# EAGLE library part FSA2567 (library _RoweTel)
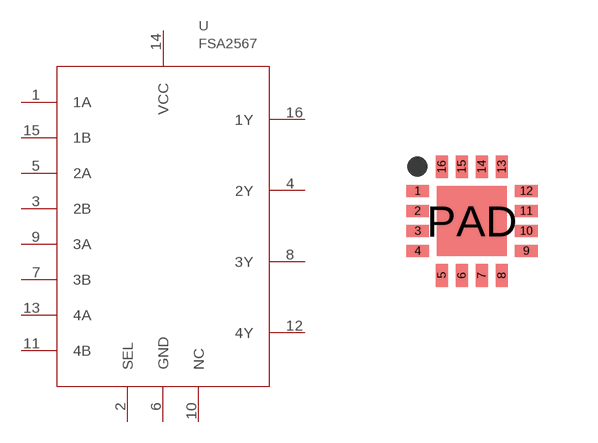
[diagram p12: symbol with the pads of MLP-16; footprint MLP-16]

Designator prefix U

## FSA2567  [MLP-16]
1  1A
2  SEL
3  2B
4  2Y
5  2A
6  GND
7  3B
8  3Y
9  3A
10  NC
11  4B
12  4Y
13  4A
14  VCC
15  1B
16  1Y

## Footprint MLP-16 (pad centres in mm)
smd 0.57 x 0.3: 1 -1.36,0.75; 2 -1.36,0.25; 3 -1.36,-0.25; 4 -1.36,-0.75; 9 1.36,-0.75; 10 1.36,-0.25; 11 1.36,0.25; 12 1.36,0.75
smd 0.3 x 0.57: 5 -0.75,-1.36; 6 -0.25,-1.36; 7 0.25,-1.36; 8 0.75,-1.36; 13 0.75,1.36; 14 0.25,1.36; 15 -0.25,1.36; 16 -0.75,1.36
smd 1.75 x 1.75: PAD 0,0